# EAGLE library part REGULATOR:MC34063(BUCK/BOOST/INVERT,1.5A) (library QuantumOptics)
MC34063 SMPS, TI & ST Micro, simple 8-pin integrated switch buck-boost-invert http://www.st.com/stonline/books/pdf/docs/5257.pdf
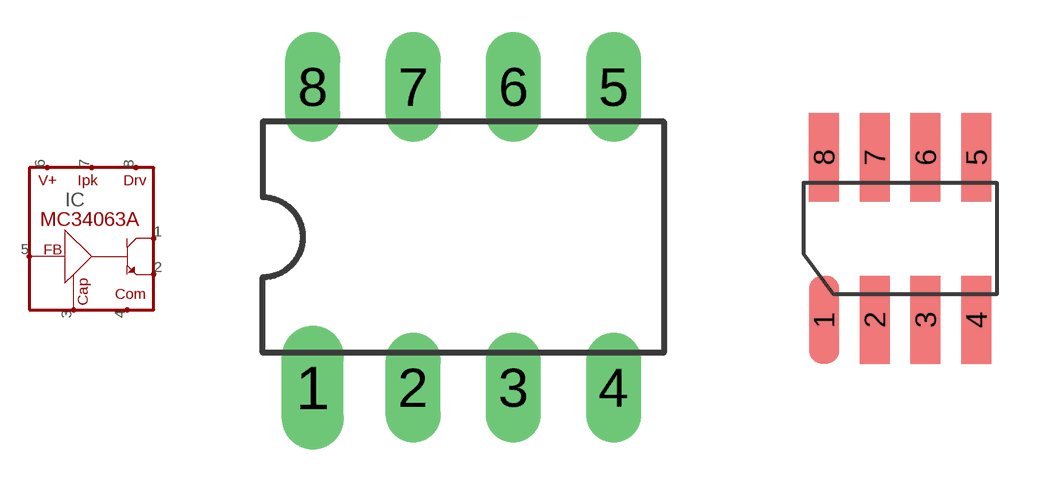
[diagram p49: symbol with the pads of DIL08; footprints DIL08, SOIC-8]

Designator prefix IC

## REGULATOR:MC34063(BUCK/BOOST/INVERT,1.5A)-DIP8  [DIL08]
1  SWCOL
2  SWEM
3  CAP
4  COM
5  FB
6  VDD
7  ISENSE
8  DRCOL

## REGULATOR:MC34063(BUCK/BOOST/INVERT,1.5A)-SIOC8  [SOIC-8]
Pads as for DIL08

## Footprint DIL08 (pad centres in mm)
Dual In Line Package
drill 0.889 pad 1.575 long: 1 -3.81,-3.81
drill 0.889 long: 2 -1.27,-3.81; 3 1.27,-3.81; 4 3.81,-3.81; 5 3.81,3.81; 6 1.27,3.81; 7 -1.27,3.81; 8 -3.81,3.81

## Footprint SOIC-8 (pad centres in mm)
SOIC-8 (AKA SO-8), pads on 0.050" grid.
smd 0.75 x 2.2: 1 -1.27,-2.032; 2 0,-2.032; 3 1.27,-2.032; 4 2.54,-2.032; 5 2.54,2.032; 6 1.27,2.032; 7 0,2.032; 8 -1.27,2.032